# Altium schematic symbol library HOLE.SchLib: 1 symbol
Pins are listed as number, name and electrical type; pins without a type are passive.

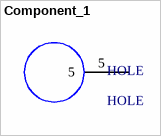
[diagram p0: symbol Component_1]

## Component_1
designator HOLE, comment HOLE
footprint HOLE (Footprint not found)
pins: 5